# EAGLE library part 74*06 (library 74xx-eu)
Hex INVERTER, open collector high-voltage output
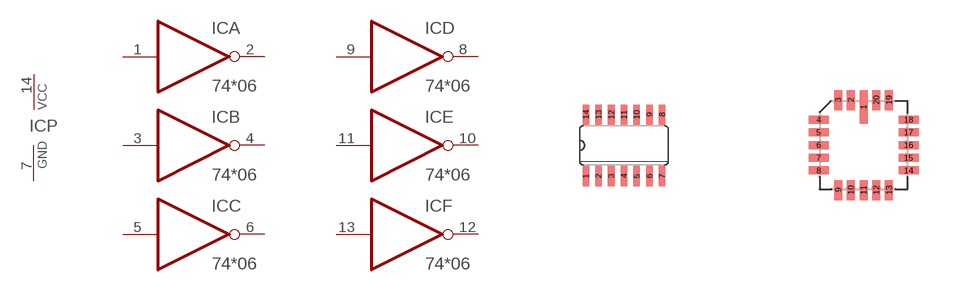
[diagram p6: symbol with the pads of SO14; footprints SO14, LCC20]

Designator prefix IC; gates A=7405 B=7405 C=7405 D=7405 E=7405 F=7405 P=PWRN

## 7406D, 74AC06D, 74ACT06D, 74LS06D  [SO14]
1  A:I  in
2  A:O  oc
3  B:I  in
4  B:O  oc
5  C:I  in
6  C:O  oc
7  P:GND  pwr
8  D:O  oc
9  D:I  in
10  E:O  oc
11  E:I  in
12  F:O  oc
13  F:I  in
14  P:VCC  pwr

## 7406FK, 74AC06FK, 74ACT06FK, 74LS06FK  [LCC20]
2  A:I  in
3  A:O  oc
4  B:I  in
6  B:O  oc
8  C:I  in
9  C:O  oc
10  P:GND  pwr
12  D:O  oc
13  D:I  in
14  E:O  oc
16  E:I  in
18  F:O  oc
19  F:I  in
20  P:VCC  pwr

## 7406N, 74AC06N, 74ACT06N, 74LS06N  [DIL14]
Pads as for SO14

## Footprint SO14 (pad centres in mm)
Small Outline package 150 mil
smd 0.165 x 0.508: 1 -0.953,-0.768; 2 -0.635,-0.768; 3 -0.318,-0.768; 4 0,-0.768; 5 0.318,-0.768; 6 0.635,-0.768; 7 0.953,-0.768; 8 0.953,0.768; 9 0.635,0.768; 10 0.318,0.768; 11 0,0.768; 12 -0.318,0.768; 13 -0.635,0.768; 14 -0.953,0.768

## Footprint LCC20 (pad centres in mm)
Leadless Chip Carrier Ceramic Package
smd 0.2 x 0.85: 1 0,0.95
smd 0.2 x 0.5: 2 -0.318,1.125; 3 -0.635,1.125; 9 -0.635,-1.125; 10 -0.318,-1.125; 11 0,-1.125; 12 0.318,-1.125; 13 0.635,-1.125; 19 0.635,1.125; 20 0.318,1.125
smd 0.5 x 0.2: 4 -1.125,0.635; 5 -1.125,0.318; 6 -1.125,0; 7 -1.125,-0.318; 8 -1.125,-0.635; 14 1.125,-0.635; 15 1.125,-0.318; 16 1.125,0; 17 1.125,0.318; 18 1.125,0.635

## Footprint DIL14 (pad centres in mm)
Dual In Line Package
drill 0.203 long: 1 -1.905,-0.953; 2 -1.27,-0.953; 3 -0.635,-0.953; 4 0,-0.953; 5 0.635,-0.953; 6 1.27,-0.953; 7 1.905,-0.953; 8 1.905,0.953; 9 1.27,0.953; 10 0.635,0.953; 11 0,0.953; 12 -0.635,0.953; 13 -1.27,0.953; 14 -1.905,0.953